# Altium schematic symbol library test_lib.SchLib: 14 symbols
Pins are listed as number, name and electrical type; pins without a type are passive.

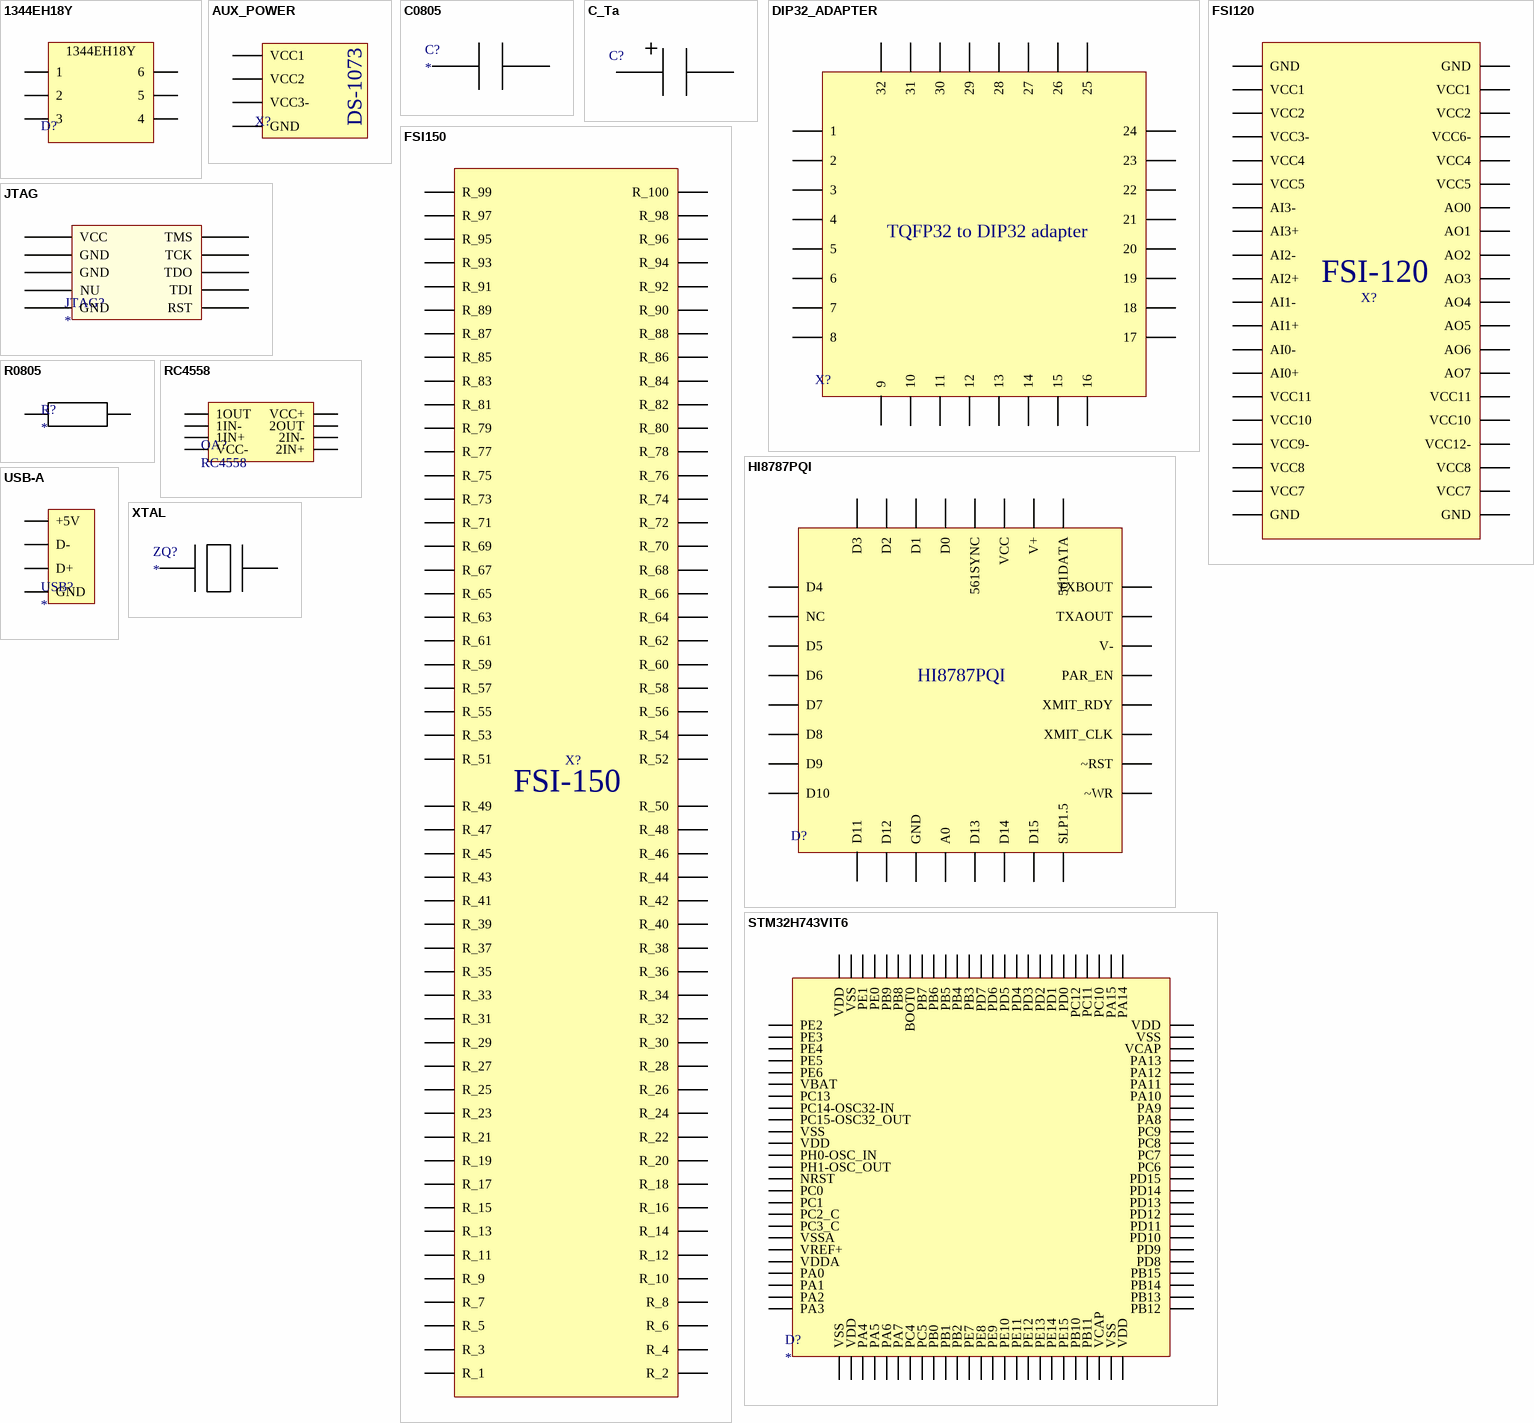
[diagram p0: symbols 1344EH18Y to XTAL]

## 1344EH18Y
designator D?
footprint 1344EH18Y
pins: 1, 2, 3, 4, 5, 6

## AUX_POWER
designator X?  (value not drawn)
auxiliary power port
footprint AUX_POWER (auxiliary power port)
pins: 1 VCC1, 2 VCC2, 3 VCC3-, 4 GND
text: DS-1073

## C0805
designator C?
0805 ceramic capacitor; Capacity: *
footprint 0805 (0805 footprint)
pins: 1, 2

## C_Ta
designator C?  (value not drawn)
tantalum capacitor
footprint C_Ta
pins: 1, 2

## DIP32_ADAPTER
designator X?  (value not drawn)
footprint DIP_ADAPTER
pins: 1, 2, 3, 4, 5, 6, 7, 8, 9, 10, 11, 12, 13, 14, 15, 16, 17, 18, 19, 20, 21, 22, 23, 24, 25, 26, 27, 28, 29, 30, 31, 32
text: TQFP32 to DIP32 adapter

## FSI120
designator X?  (value not drawn)
footprint FSI-120
pins: 1 GND, 2 VCC7, 3 VCC8, 4 VCC9-, 5 VCC10, 6 VCC11, 7 AI0+, 8 AI0-, 9 AI1+, 10 AI1-, 11 AI2+, 12 AI2-, 13 AI3+, 14 AI3-, 15 VCC5, 16 VCC4, 17 VCC3-, 18 VCC2, 19 VCC1, 20 GND, 21 GND, 22 VCC1, 23 VCC2, 24 VCC6-, 25 VCC4, 26 VCC5, 27 AO0, 28 AO1, 29 AO2, 30 AO3, 31 AO4, 32 AO5, 33 AO6, 34 AO7, 35 VCC11, 36 VCC10, 37 VCC7, 38 VCC8, 39 VCC12-, 40 GND
text: FSI-120

## FSI150
designator X?  (value not drawn)
footprint FSI-150
pins: R_1, R_2, R_3, R_4, R_5, R_6, R_7, R_8, R_9, R_10, R_11, R_12, R_13, R_14, R_15, R_16, R_17, R_18, R_19, R_20, R_21, R_22, R_23, R_24, R_25, R_26, R_27, R_28, R_29, R_30, R_31, R_32, R_33, R_34, R_35, R_36, R_37, R_38, R_39, R_40, R_41, R_42, R_43, R_44, R_45, R_46, R_47, R_48, R_49, R_50, R_51, R_52, R_53, R_54, R_55, R_56, R_57, R_58, R_59, R_60, R_61, R_62, R_63, R_64, R_65, R_66, R_67, R_68, R_69, R_70, R_71, R_72, R_73, R_74, R_75, R_76, R_77, R_78, R_79, R_80, R_81, R_82, R_83, R_84, R_85, R_86, R_87, R_88, R_89, R_90, R_91, R_92, R_93, R_94, R_95, R_96, R_97, R_98, R_99, R_100
text: FSI-150

## HI8787PQI
designator D?  (value not drawn)
footprint HI8787PQI
pins: 1 D4, 2 NC, 3 D5, 4 D6, 5 D7, 6 D8, 7 D9, 8 D10, 9 D11, 10 D12, 11 GND, 12 A0, 13 D13, 14 D14, 15 D15, 16 SLP1.5, 17 ~WR, 18 ~RST, 19 XMIT_CLK, 20 XMIT_RDY, 21 PAR_EN, 22 V-, 23 TXAOUT, 24 TXBOUT, 25 561DATA, 26 V+, 27 VCC, 28 561SYNC, 29 D0, 30 D1, 31 D2, 32 D3

## JTAG
designator JTAG?
jtag pld
footprint JTAG_PLD
pins: 1 VCC, 2 TMS, 3 GND, 4 TCK, 5 GND, 6 TDO, 7 NU, 8 TDI, 9 GND, 10 RST

## R0805
designator R?
0805 resistor; Resistance: *
footprint 0805
pins: 1, 2

## RC4558
designator OA?
opamp, ssop8 package
footprint RC4558 (TSOP, 8-Leads, RC4558 operation amplifier)
pins: 1 1OUT, 2 1IN-, 3 1IN+, 4 VCC-, 5 2IN+, 6 2IN-, 7 2OUT, 8 VCC+

## STM32H743VIT6
designator D?
32-bit cortex m7 uc
footprint STM32H743VIT6 (cortex m7 uc)
pins: 1 PE2, 2 PE3, 3 PE4, 4 PE5, 5 PE6, 6 VBAT, 7 PC13, 8 PC14-OSC32-IN, 9 PC15-OSC32_OUT, 10 VSS, 11 VDD, 12 PH0-OSC_IN, 13 PH1-OSC_OUT, 14 NRST, 15 PC0, 16 PC1, 17 PC2_C, 18 PC3_C, 19 VSSA, 20 VREF+, 21 VDDA, 22 PA0, 23 PA1, 24 PA2, 25 PA3, 26 VSS, 27 VDD, 28 PA4, 29 PA5, 30 PA6, 31 PA7, 32 PC4, 33 PC5, 34 PB0, 35 PB1, 36 PB2, 37 PE7, 38 PE8, 39 PE9, 40 PE10, 41 PE11, 42 PE12, 43 PE13, 44 PE14, 45 PE15, 46 PB10, 47 PB11, 48 VCAP, 49 VSS, 50 VDD, 51 PB12, 52 PB13, 53 PB14, 54 PB15, 55 PD8, 56 PD9, 57 PD10, 58 PD11, 59 PD12, 60 PD13, 61 PD14, 62 PD15, 63 PC6, 64 PC7, 65 PC8, 66 PC9, 67 PA8, 68 PA9, 69 PA10, 70 PA11, 71 PA12, 72 PA13, 73 VCAP, 74 VSS, 75 VDD, 76 PA14, 77 PA15, 78 PC10, 79 PC11, 80 PC12, 81 PD0, 82 PD1, 83 PD2, 84 PD3, 85 PD4, 86 PD5, 87 PD6, 88 PD7, 89 PB3, 90 PB4, 91 PB5, 92 PB6, 93 PB7, 94 BOOT0, 95 PB8, 96 PB9, 97 PE0, 98 PE1, 99 VSS, 100 VDD

## USB-A
designator USB?
usb-a female header
footprint MICRO_USB (smd micro usb connector)
pins: 1 +5V, 2 D-, 3 D+, 4 GND

## XTAL
designator ZQ?
Frequency: *
footprint XTAL
pins: 1, 2